# EAGLE library part S-DIP-8 (library elpp-tht-v1.2)
DIP Switch, 8 positions
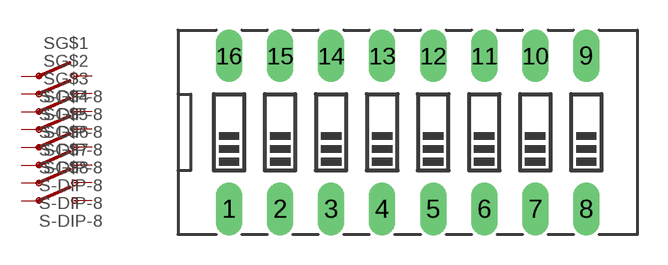
[diagram p45: symbol with the pads of ELPP-S-DIP8; footprint ELPP-S-DIP8]

Designator prefix S; gates G$1=SWITCH G$2=SWITCH G$3=SWITCH G$4=SWITCH G$5=SWITCH G$6=SWITCH G$7=SWITCH G$8=SWITCH

## S-DIP-8 (FARNELL: 1123941; RS: 6393049)  [ELPP-S-DIP8]
1  G$1:O  pas
2  G$2:O  pas
3  G$3:O  pas
4  G$4:O  pas
5  G$5:O  pas
6  G$6:O  pas
7  G$7:O  pas
8  G$8:O  pas
9  G$8:P  pas
10  G$7:P  pas
11  G$6:P  pas
12  G$5:P  pas
13  G$4:P  pas
14  G$3:P  pas
15  G$2:P  pas
16  G$1:P  pas

## Footprint ELPP-S-DIP8 (pad centres in mm)
DIP SWITCH, 8 positions
drill 0.8 long: 1 -8.89,-3.81; 2 -6.35,-3.81; 3 -3.81,-3.81; 4 -1.27,-3.81; 5 1.27,-3.81; 6 3.81,-3.81; 7 6.35,-3.81; 8 8.89,-3.81; 9 8.89,3.81; 10 6.35,3.81; 11 3.81,3.81; 12 1.27,3.81; 13 -1.27,3.81; 14 -3.81,3.81; 15 -6.35,3.81; 16 -8.89,3.81